# Altium integrated library rf-lora.IntLib: 1 symbol
Pins are listed as number, name and electrical type; pins without a type are passive.

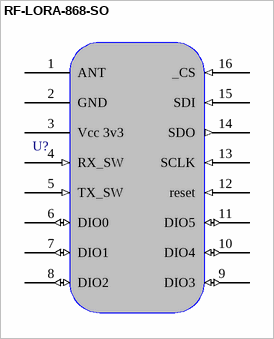
[diagram p0: symbol RF-LORA-868-SO]

## RF-LORA-868-SO
designator U?  (value not drawn)
footprint RF-LORA-868-SO
footprint RF-LORA-868-DIP
pins: 1 ANT, 2 GND (power), 3 Vcc 3v3 (power), 4 RX_SW (in), 5 TX_SW (in), 6 DIO0 (io), 7 DIO1 (io), 8 DIO2 (io), 9 DIO3 (io), 10 DIO4 (io), 11 DIO5 (io), 12 reset (in), 13 SCLK (in), 14 SDO (out), 15 SDI (in), 16 _CS (in)